# EAGLE library part PINHD-1X8 (library _mtvl.connectors)
PIN HEADER
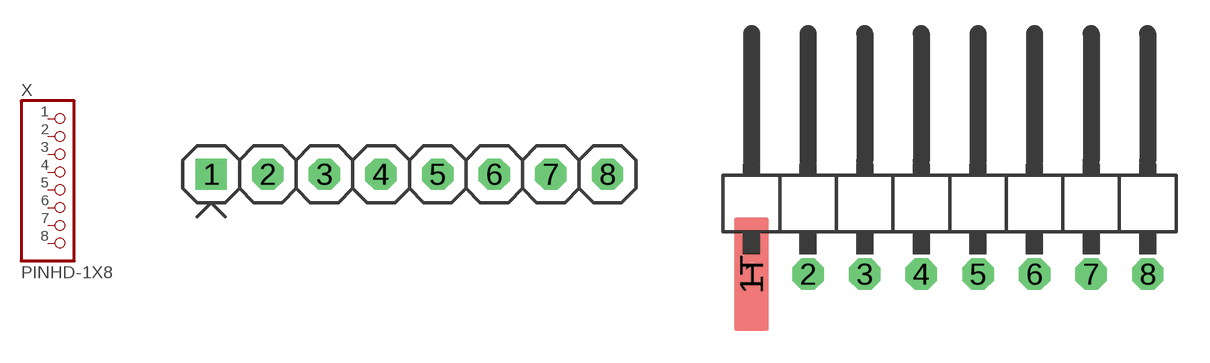
[diagram p13: symbol with the pads of 1X08_; footprints 1X08_, 1X08/90]

Designator prefix X

## PINHD-1X8  [1X08_]
1  1  pas
2  2  pas
3  3  pas
4  4  pas
5  5  pas
6  6  pas
7  7  pas
8  8  pas

## PINHD-1X8/90  [1X08/90]
Pads as for 1X08_

## PINHD-1X8F  [1X08F]
Pads as for 1X08_

## PINHD-1X8HS  [1X08_HYBRID]
1  1  pas
1B  1  pas
1T  1  pas
2  2  pas
2B  2  pas
2T  2  pas
3  3  pas
3B  3  pas
3T  3  pas
4  4  pas
4B  4  pas
4T  4  pas
5  5  pas
5B  5  pas
5T  5  pas
6  6  pas
6B  6  pas
6T  6  pas
7  7  pas
7B  7  pas
7T  7  pas
8  8  pas
8B  8  pas
8T  8  pas

## Footprint 1X08_ (pad centres in mm)
PIN HEADER
drill 0.9 square: 1 -8.89,0
drill 0.9 octagon: 2 -6.35,0; 3 -3.81,0; 4 -1.27,0; 5 1.27,0; 6 3.81,0; 7 6.35,0; 8 8.89,0

## Footprint 1X08/90 (pad centres in mm)
PIN HEADER
drill 0.9 square: 1 -8.89,-3.81
smd 1.524 x 5.08: 1T -8.89,-3.81
drill 0.9 octagon: 2 -6.35,-3.81; 3 -3.81,-3.81; 4 -1.27,-3.81; 5 1.27,-3.81; 6 3.81,-3.81; 7 6.35,-3.81; 8 8.89,-3.81

## Footprint 1X08F (pad centres in mm)
PIN HEADER FEMALE https://static.chipdip.ru/lib/226/DOC000226931.pdf
drill 0.8 square: 1 -8.89,0
drill 0.8 octagon: 2 -6.35,0; 3 -3.81,0; 4 -1.27,0; 5 1.27,0; 6 3.81,0; 7 6.35,0; 8 8.89,0

## Footprint 1X08_HYBRID (pad centres in mm)
8 Pin hybrid side connector
drill 1 square: 1 -8.89,0
smd 1.524 x 2.794 bottom: 1B -8.89,0.635; 2B -6.35,0.635; 3B -3.81,0.635; 4B -1.27,0.635; 5B 1.27,0.635; 6B 3.81,0.635; 7B 6.35,0.635; 8B 8.89,0.635
smd 1.524 x 2.794: 1T -8.89,0.635; 2T -6.35,0.635; 3T -3.81,0.635; 4T -1.27,0.635; 5T 1.27,0.635; 6T 3.81,0.635; 7T 6.35,0.635; 8T 8.89,0.635
drill 1 octagon: 2 -6.35,0; 3 -3.81,0; 4 -1.27,0; 5 1.27,0; 6 3.81,0; 7 6.35,0; 8 8.89,0